# EAGLE library part LED-8X8-RGB (library X893)
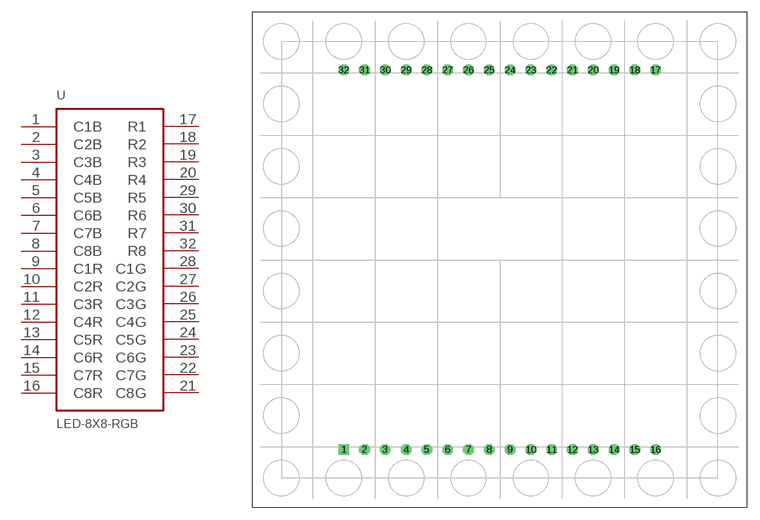
[diagram p166: symbol with the pads of LED-8X8-RGB; footprint LED-8X8-RGB]

Designator prefix U

## LED-8X8-RGB  [LED-8X8-RGB]
1  C1B  pas
2  C2B  pas
3  C3B  pas
4  C4B  pas
5  C5B  pas
6  C6B  pas
7  C7B  pas
8  C8B  pas
9  C1R  pas
10  C2R  pas
11  C3R  pas
12  C4R  pas
13  C5R  pas
14  C6R  pas
15  C7R  pas
16  C8R  pas
17  R1  pas
18  R2  pas
19  R3  pas
20  R4  pas
21  C8G  pas
22  C7G  pas
23  C6G  pas
24  C5G  pas
25  C4G  pas
26  C3G  pas
27  C2G  pas
28  C1G  pas
29  R5  pas
30  R6  pas
31  R7  pas
32  R8  pas

## Footprint LED-8X8-RGB (pad centres in mm)
drill 0.8 square: 1 -19.05,-23.2
drill 0.8 octagon: 2 -16.51,-23.2; 3 -13.97,-23.2; 4 -11.43,-23.2; 5 -8.89,-23.2; 6 -6.35,-23.2; 7 -3.81,-23.2; 8 -1.27,-23.2; 9 1.27,-23.2; 10 3.81,-23.2; 11 6.35,-23.2; 12 8.89,-23.2; 13 11.43,-23.2; 14 13.97,-23.2; 15 16.51,-23.2; 16 19.05,-23.2; 17 19.05,23.2; 18 16.51,23.2; 19 13.97,23.2; 20 11.43,23.2; 21 8.89,23.2; 22 6.35,23.2; 23 3.81,23.2; 24 1.27,23.2; 25 -1.27,23.2; 26 -3.81,23.2; 27 -6.35,23.2; 28 -8.89,23.2; 29 -11.43,23.2; 30 -13.97,23.2; 31 -16.51,23.2; 32 -19.05,23.2